# Altium integrated library Bornera enchufable-H-282814-2.IntLib: 1 symbol
Pins are listed as number, name and electrical type; pins without a type are passive.

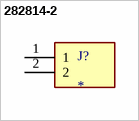
[diagram p0: symbol 282814-2]

## 282814-2
designator J?
TERMI-BLOK HEADER,ASSY90 3P.5; MP: 282814-2; Package: None; Availability: Unavailable; Value: *; Price: None
footprint TE_282814-2
pins: 1, 2